# Altium integrated library NSC Amplifier.IntLib: 1615 symbols (part 20 of 44)
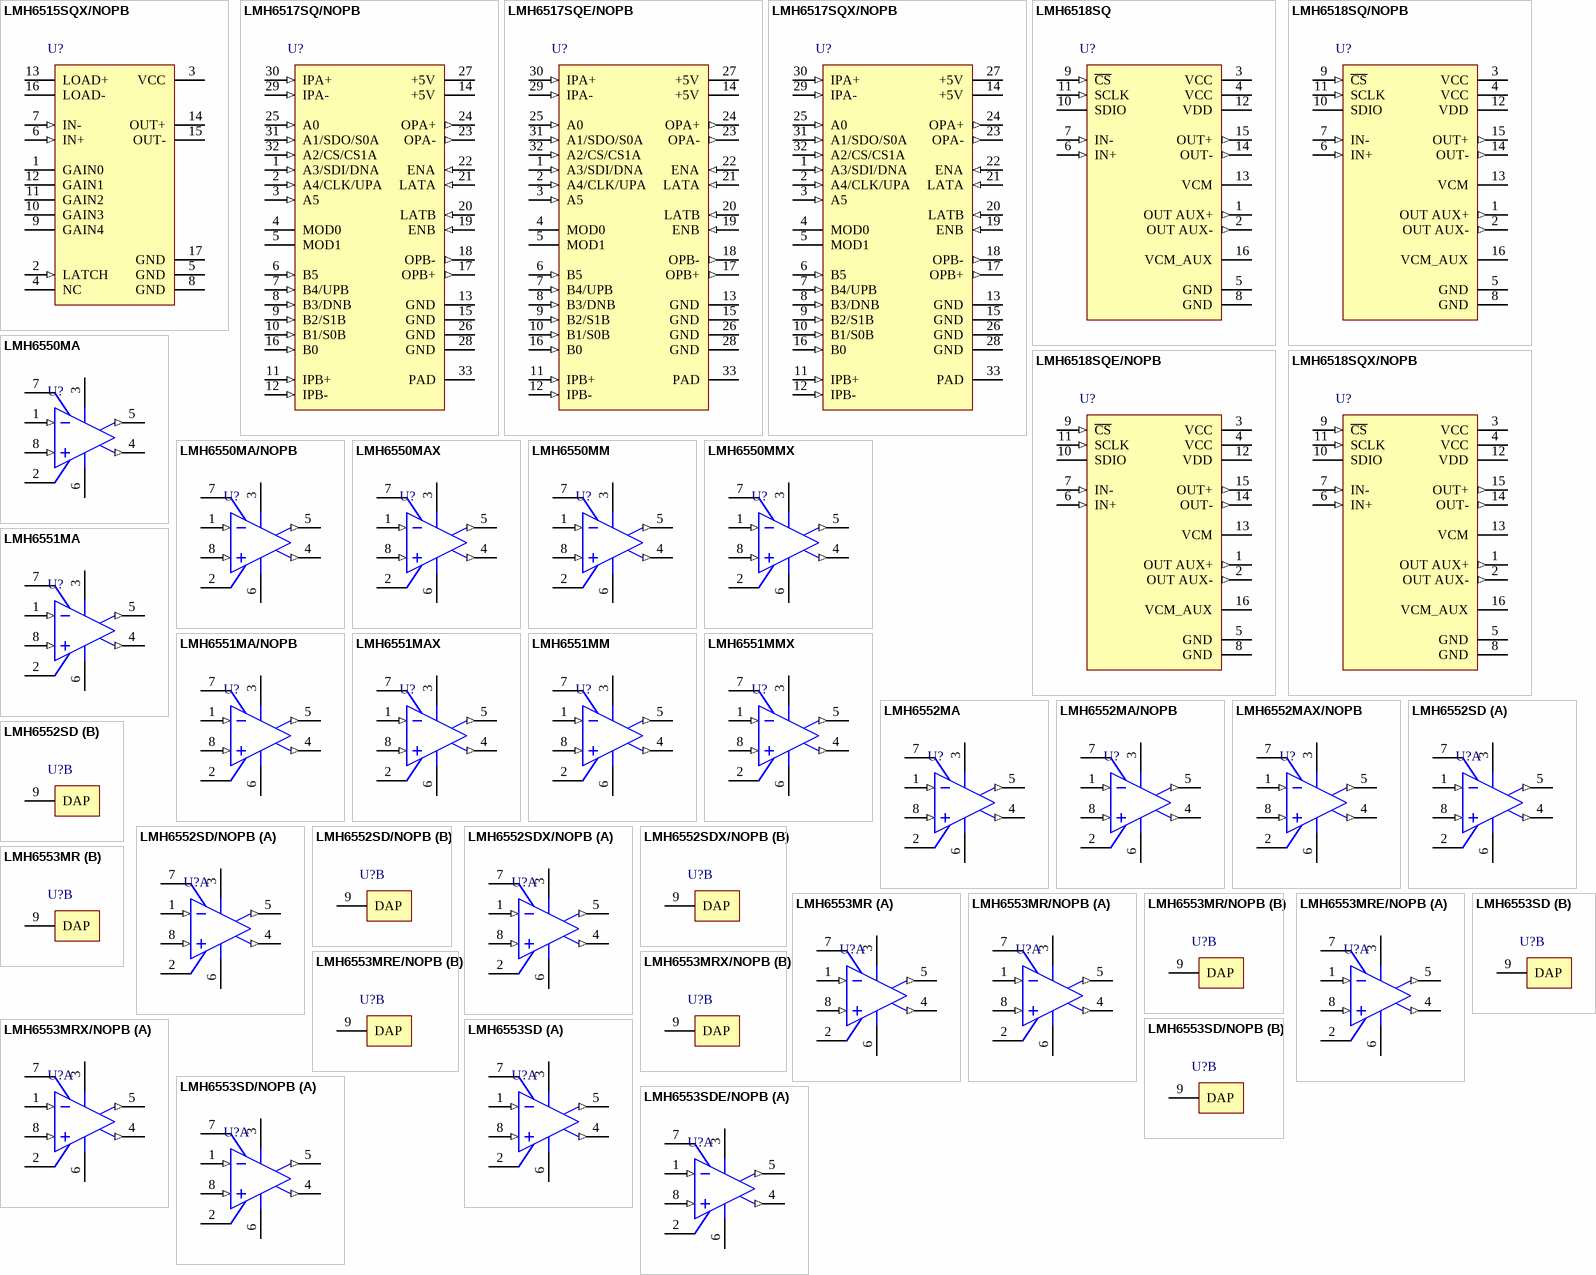
[diagram p101: symbols LMH6515SQX/NOPB to LMH6553SDE/NOPB]

## LMH6517SQX/NOPB
designator U?
Low Power, Low Noise IF and Baseband Dual 16 bit ADC Driver With Digitally Controlled Gain, 32 pin LLP, Pb-Free; PartNumber: LMH6517SQX/NOPB; Manufacturer: National Semiconductor; PackageTopMarking: NS*UZXYTT*L6517SQ; PowerWise: N; CompType: Amplifiers; Published: 1-Mar-2010; DatasheetVersion: Nov-2009; PackageVersion: revB, Oct-2009; PackageReference: SQA32A; Publisher: Altium Limited; PackageDescription: LLP, Quad, 5 x 5 x 0.8mm, 32 Lead, 0.5mm Pitch, No Pullback 3.1 x 3.1 Exposed Pad; Supplier 1: Digi-Key; Supplier Part Number 1: LMH6517SQX-ND; RoHS: Y; PinCount: 32; ComponentLink1Description: LMH6517 Datasheet; ComponentLink1URL: http://www.national.com/ds/LM/LMH6517.pdf; ComponentLink2Description: LMH6517 Web Page; ComponentLink2URL: http://www.national.com/pf/LM/LMH6517.html; ComponentLink3Description: SQA32A Package Page; ComponentLink3URL: http://www.national.com/packaging/folders/sqa32a.html
footprint SQA32A (QFN, 32-Leads, Body 5x5mm, Pitch 0.5mm, NSC Recommended)
pins: 1 A3/SDI/DNA (in), 2 A4/CLK/UPA (in), 3 A5 (in), 4 MOD0, 5 MOD1, 6 B5 (in), 7 B4/UPB (in), 8 B3/DNB (in), 9 B2/S1B (in), 10 B1/S0B (in), 11 IPB+ (in), 12 IPB- (in), 13 GND (power), 14 +5V (power), 15 GND (power), 16 B0 (in), 17 OPB+ (out), 18 OPB- (out), 19 ENB (in), 20 LATB (in), 21 LATA (in), 22 ENA (in), 23 OPA- (out), 24 OPA+ (out), 25 A0 (in), 26 GND (power), 27 +5V (power), 28 GND (power), 29 IPA- (in), 30 IPA+ (in), 31 A1/SDO/S0A (in), 32 A2/CS/CS1A (in), 33 PAD (power)

## LMH6518SQ
designator U?
900 MHz, Digitally Controlled, Variable Gain Amplifier, 16-pin LLP; PartNumber: LMH6518; Manufacturer: National Semiconductor; PackageTopMarking: NS*UZXYTT*L6518SQ; PowerWise: Y; CompType: Amplifiers; Published: 4-Dec-2008; DatasheetVersion: Oct-2008; PackageVersion: revA, Oct-2003; PackageReference: SQA16A; Publisher: Altium Limited; PackageDescription: LLP, Plastic, Quad, 4 x 4 x 0.8mm Body, 16 Lead, 0.5mm Pitch, No Pullback; RoHS: Y; PinCount: 16; ComponentLink1Description: LMH6518 Datasheet; ComponentLink1URL: http://www.national.com/ds/LM/LMH6518.pdf; ComponentLink2Description: LMH6518 Web Page; ComponentLink2URL: http://www.national.com/pf/LM/LMH6518.html; ComponentLink3Description: SQA16A Package Page; ComponentLink3URL: http://www.national.com/packaging/folders/sqa16a.html
footprint SQA16A (QFN, 16-Leads, Body 4x4mm, Pitch 0.5mm, NSC Recommended)
pins: 1 OUT AUX+ (out), 2 OUT AUX- (out), 3 VCC (power), 4 VCC (power), 5 GND (power), 6 IN+ (in), 7 IN- (in), 8 GND (power), 9 ~{CS} (in), 10 SDIO (hiz), 11 SCLK (in), 12 VDD (power), 13 VCM, 14 OUT- (out), 15 OUT+ (out), 16 VCM_AUX

## LMH6518SQ/NOPB
designator U?
900 MHz, Digitally Controlled, Variable Gain Amplifier, 16-pin LLP, Pb-Free; PartNumber: LMH6518SQ/NOPB; Manufacturer: National Semiconductor; PackageTopMarking: NS*UZXYTT*L6518SQ; PowerWise: Y; CompType: Amplifiers; Published: 1-Mar-2010; DatasheetVersion: Oct-2008; PackageVersion: revA, Oct-2003; PackageReference: SQA16A; Publisher: Altium Limited; PackageDescription: LLP, Plastic, Quad, 4 x 4 x 0.8mm Body, 16 Lead, 0.5mm Pitch, No Pullback; Supplier 1: Digi-Key; Supplier Part Number 1: LMH6518SQ-ND; RoHS: Y; PinCount: 16; ComponentLink1Description: LMH6518 Datasheet; ComponentLink1URL: http://www.national.com/ds/LM/LMH6518.pdf; ComponentLink2Description: LMH6518 Web Page; ComponentLink2URL: http://www.national.com/pf/LM/LMH6518.html; ComponentLink3Description: SQA16A Package Page; ComponentLink3URL: http://www.national.com/packaging/folders/sqa16a.html
footprint SQA16A (QFN, 16-Leads, Body 4x4mm, Pitch 0.5mm, NSC Recommended)
pins: 1 OUT AUX+ (out), 2 OUT AUX- (out), 3 VCC (power), 4 VCC (power), 5 GND (power), 6 IN+ (in), 7 IN- (in), 8 GND (power), 9 ~{CS} (in), 10 SDIO (hiz), 11 SCLK (in), 12 VDD (power), 13 VCM, 14 OUT- (out), 15 OUT+ (out), 16 VCM_AUX

## LMH6518SQE/NOPB
designator U?
900 MHz, Digitally Controlled, Variable Gain Amplifier, 16-pin LLP, Pb-Free; PartNumber: LMH6518SQE/NOPB; Manufacturer: National Semiconductor; PackageTopMarking: NS*UZXYTT*L6518SQ; PowerWise: Y; CompType: Amplifiers; Published: 1-Mar-2010; DatasheetVersion: Oct-2008; PackageVersion: revA, Oct-2003; PackageReference: SQA16A; Publisher: Altium Limited; PackageDescription: LLP, Plastic, Quad, 4 x 4 x 0.8mm Body, 16 Lead, 0.5mm Pitch, No Pullback; Supplier 1: Digi-Key; Supplier Part Number 1: LMH6518SQETR-ND; Supplier 2: Digi-Key; Supplier Part Number 2: LMH6518SQECT-ND; Supplier 3: Digi-Key; Supplier Part Number 3: LMH6518SQEDKR-ND; Supplier 4: Farnell; Supplier Part Number 4: 1684974; RoHS: Y; PinCount: 16; ComponentLink1Description: LMH6518 Datasheet; ComponentLink1URL: http://www.national.com/ds/LM/LMH6518.pdf; ComponentLink2Description: LMH6518 Web Page; ComponentLink2URL: http://www.national.com/pf/LM/LMH6518.html; ComponentLink3Description: SQA16A Package Page; ComponentLink3URL: http://www.national.com/packaging/folders/sqa16a.html
footprint SQA16A (QFN, 16-Leads, Body 4x4mm, Pitch 0.5mm, NSC Recommended)
pins: 1 OUT AUX+ (out), 2 OUT AUX- (out), 3 VCC (power), 4 VCC (power), 5 GND (power), 6 IN+ (in), 7 IN- (in), 8 GND (power), 9 ~{CS} (in), 10 SDIO (hiz), 11 SCLK (in), 12 VDD (power), 13 VCM, 14 OUT- (out), 15 OUT+ (out), 16 VCM_AUX

## LMH6518SQX/NOPB
designator U?
900 MHz, Digitally Controlled, Variable Gain Amplifier, 16-pin LLP, Pb-Free; PartNumber: LMH6518SQX/NOPB; Manufacturer: National Semiconductor; PackageTopMarking: NS*UZXYTT*L6518SQ; PowerWise: Y; CompType: Amplifiers; Published: 1-Mar-2010; DatasheetVersion: Oct-2008; PackageVersion: revA, Oct-2003; PackageReference: SQA16A; Publisher: Altium Limited; PackageDescription: LLP, Plastic, Quad, 4 x 4 x 0.8mm Body, 16 Lead, 0.5mm Pitch, No Pullback; Supplier 1: Digi-Key; Supplier Part Number 1: LMH6518SQX-ND; RoHS: Y; PinCount: 16; ComponentLink1Description: LMH6518 Datasheet; ComponentLink1URL: http://www.national.com/ds/LM/LMH6518.pdf; ComponentLink2Description: LMH6518 Web Page; ComponentLink2URL: http://www.national.com/pf/LM/LMH6518.html; ComponentLink3Description: SQA16A Package Page; ComponentLink3URL: http://www.national.com/packaging/folders/sqa16a.html
footprint SQA16A (QFN, 16-Leads, Body 4x4mm, Pitch 0.5mm, NSC Recommended)
pins: 1 OUT AUX+ (out), 2 OUT AUX- (out), 3 VCC (power), 4 VCC (power), 5 GND (power), 6 IN+ (in), 7 IN- (in), 8 GND (power), 9 ~{CS} (in), 10 SDIO (hiz), 11 SCLK (in), 12 VDD (power), 13 VCM, 14 OUT- (out), 15 OUT+ (out), 16 VCM_AUX

## LMH6550MA
designator U?
Differential, High Speed Op Amp, 8-pin Narrow SOIC; PartNumber: LMH6550MA; Manufacturer: National Semiconductor; PackageTopMarking: NSZXTT*LMH65*50MA; PowerWise: Y; CompType: Amplifiers; Published: 4-Dec-2008; LatestRevisionDate: 13-Jan-2009; LatestRevisionNote: Sim Model Added.; DatasheetVersion: May-2006; PackageVersion: revM, May-2009; PackageReference: M08A; Publisher: Altium Limited; PackageDescription: SOIC Narrow, 4.9 x 3.9 x 1.45mm, 8 Lead, 1.27mm Pitch; Supplier 1: Farnell; Supplier Part Number 1: 1008272; RoHS: N; PinCount: 8; Code_JEDEC: MS-012-AA; Code_IPC: SOIC127P600-8; ComponentLink1Description: LMH6550 Datasheet; ComponentLink1URL: http://www.national.com/ds/LM/LMH6550.pdf; ComponentLink2Description: LMH6550 Web Page; ComponentLink2URL: http://www.national.com/pf/LM/LMH6550.html; ComponentLink3Description: M08A Package Page; ComponentLink3URL: http://www.national.com/packaging/folders/m08a.html
footprint M08A_N (SOIC, 8-Leads, Body 4.9x3.9mm, Pitch 1.27mm, IPC Medium Density)
footprint M08A_L (SOIC, 8-Leads, Body 4.9x3.9mm, Pitch 1.27mm, IPC High Density)
footprint M08A_M (SOIC, 8-Leads, Body 4.9x3.9mm, Pitch 1.27mm, IPC Low Density)
simulation model LMH6550 (SUBCKT)
pins: 1 IN- (in), 2 VCM, 3 V+ (power), 4 OUT+ (out), 5 OUT- (out), 6 V- (power), 7 EN, 8 IN+ (in)

## LMH6550MA/NOPB
designator U?
Differential, High Speed Op Amp, 8-pin Narrow SOIC, Pb-Free; PartNumber: LMH6550MA/NOPB; Manufacturer: National Semiconductor; PackageTopMarking: NSZXTT*LMH65*50MA; PowerWise: Y; CompType: Amplifiers; Published: 1-Mar-2010; DatasheetVersion: May-2006; PackageVersion: revM, May-2009; PackageReference: M08A; Publisher: Altium Limited; PackageDescription: SOIC Narrow, 4.9 x 3.9 x 1.45mm, 8 Lead, 1.27mm Pitch; Supplier 1: Digi-Key; Supplier Part Number 1: LMH6550MA-ND; Supplier 2: Farnell; Supplier Part Number 2: 1510999; RoHS: Y; PinCount: 8; Code_JEDEC: MS-012-AA; Code_IPC: SOIC127P600-8; ComponentLink1Description: LMH6550 Datasheet; ComponentLink1URL: http://www.national.com/ds/LM/LMH6550.pdf; ComponentLink2Description: LMH6550 Web Page; ComponentLink2URL: http://www.national.com/pf/LM/LMH6550.html; ComponentLink3Description: M08A Package Page; ComponentLink3URL: http://www.national.com/packaging/folders/m08a.html
footprint M08A_N (SOIC, 8-Leads, Body 4.9x3.9mm, Pitch 1.27mm, IPC Medium Density)
footprint M08A_L (SOIC, 8-Leads, Body 4.9x3.9mm, Pitch 1.27mm, IPC High Density)
footprint M08A_M (SOIC, 8-Leads, Body 4.9x3.9mm, Pitch 1.27mm, IPC Low Density)
simulation model LMH6550 (SUBCKT)
pins: 1 IN- (in), 2 VCM, 3 V+ (power), 4 OUT+ (out), 5 OUT- (out), 6 V- (power), 7 EN, 8 IN+ (in)

## LMH6550MAX
designator U?
Differential, High Speed Op Amp, 8-pin Narrow SOIC; PartNumber: LMH6550MAX; Manufacturer: National Semiconductor; PackageTopMarking: NSZXTT*LMH65*50MA; PowerWise: Y; CompType: Amplifiers; Published: 1-Mar-2010; DatasheetVersion: May-2006; PackageVersion: revM, May-2009; PackageReference: M08A; Publisher: Altium Limited; PackageDescription: SOIC Narrow, 4.9 x 3.9 x 1.45mm, 8 Lead, 1.27mm Pitch; RoHS: N; PinCount: 8; Code_JEDEC: MS-012-AA; Code_IPC: SOIC127P600-8; ComponentLink1Description: LMH6550 Datasheet; ComponentLink1URL: http://www.national.com/ds/LM/LMH6550.pdf; ComponentLink2Description: LMH6550 Web Page; ComponentLink2URL: http://www.national.com/pf/LM/LMH6550.html; ComponentLink3Description: M08A Package Page; ComponentLink3URL: http://www.national.com/packaging/folders/m08a.html
footprint M08A_N (SOIC, 8-Leads, Body 4.9x3.9mm, Pitch 1.27mm, IPC Medium Density)
footprint M08A_L (SOIC, 8-Leads, Body 4.9x3.9mm, Pitch 1.27mm, IPC High Density)
footprint M08A_M (SOIC, 8-Leads, Body 4.9x3.9mm, Pitch 1.27mm, IPC Low Density)
simulation model LMH6550 (SUBCKT)
pins: 1 IN- (in), 2 VCM, 3 V+ (power), 4 OUT+ (out), 5 OUT- (out), 6 V- (power), 7 EN, 8 IN+ (in)

## LMH6550MM
designator U?
Differential, High Speed Op Amp, 8-pin Mini SOIC; PartNumber: LMH6550MM; Manufacturer: National Semiconductor; PackageTopMarking: ZXTT*AL1A; PowerWise: Y; CompType: Amplifiers; Published: 4-Dec-2008; LatestRevisionDate: 13-Jan-2009; LatestRevisionNote: Sim Model Added.; DatasheetVersion: May-2006; PackageVersion: revF, Apr-2008; PackageReference: MUA08A; Publisher: Altium Limited; PackageDescription: MINI SOIC, .118 x .118 x .034in, 8 Lead, .0256in Pitch; Supplier 1: Farnell; Supplier Part Number 1: 1008036; RoHS: Y; PinCount: 8; Code_JEDEC: MO-187-AA; ComponentLink1Description: LMH6550 Datasheet; ComponentLink1URL: http://www.national.com/ds/LM/LMH6550.pdf; ComponentLink2Description: LMH6550 Web Page; ComponentLink2URL: http://www.national.com/pf/LM/LMH6550.html; ComponentLink3Description: MUA08A Package Page; ComponentLink3URL: http://www.national.com/packaging/folders/mua08a.html
footprint MUA08A_N (TSOP, 8-Leads, Body 3x3mm, Pitch 0.65mm, IPC Medium Density)
footprint MUA08A_L (TSOP, 8-Leads, Body 3x3mm, Pitch 0.65mm, IPC High Density)
footprint MUA08A_M (TSOP, 8-Leads, Body 3x3mm, Pitch 0.65mm, IPC Low Density)
simulation model LMH6550 (SUBCKT)
pins: 1 IN- (in), 2 VCM, 3 V+ (power), 4 OUT+ (out), 5 OUT- (out), 6 V- (power), 7 EN, 8 IN+ (in)

## LMH6550MMX
designator U?
Differential, High Speed Op Amp, 8-pin Mini SOIC; PartNumber: LMH6550MMX; Manufacturer: National Semiconductor; PackageTopMarking: ZXTT*AL1A; PowerWise: Y; CompType: Amplifiers; Published: 1-Mar-2010; DatasheetVersion: May-2006; PackageVersion: revF, Apr-2008; PackageReference: MUA08A; Publisher: Altium Limited; PackageDescription: MINI SOIC, .118 x .118 x .034in, 8 Lead, .0256in Pitch; RoHS: N; PinCount: 8; Code_JEDEC: MO-187-AA; ComponentLink1Description: LMH6550 Datasheet; ComponentLink1URL: http://www.national.com/ds/LM/LMH6550.pdf; ComponentLink2Description: LMH6550 Web Page; ComponentLink2URL: http://www.national.com/pf/LM/LMH6550.html; ComponentLink3Description: MUA08A Package Page; ComponentLink3URL: http://www.national.com/packaging/folders/mua08a.html
footprint MUA08A_N (TSOP, 8-Leads, Body 3x3mm, Pitch 0.65mm, IPC Medium Density)
footprint MUA08A_L (TSOP, 8-Leads, Body 3x3mm, Pitch 0.65mm, IPC High Density)
footprint MUA08A_M (TSOP, 8-Leads, Body 3x3mm, Pitch 0.65mm, IPC Low Density)
simulation model LMH6550 (SUBCKT)
pins: 1 IN- (in), 2 VCM, 3 V+ (power), 4 OUT+ (out), 5 OUT- (out), 6 V- (power), 7 EN, 8 IN+ (in)

## LMH6551MA
designator U?
Differential, High Speed Op Amp, 8-pin Narrow SOIC; PartNumber: LMH6551MA; Manufacturer: National Semiconductor; PackageTopMarking: NSZXTT*LMH65*51MA; PowerWise: Y; CompType: Amplifiers; Published: 4-Dec-2008; LatestRevisionDate: 13-Jan-2009; LatestRevisionNote: Sim Model Added.; DatasheetVersion: Feb-2005; PackageVersion: revM, May-2009; PackageReference: M08A; Publisher: Altium Limited; PackageDescription: SOIC Narrow, 4.9 x 3.9 x 1.45mm, 8 Lead, 1.27mm Pitch; Supplier 1: Farnell; Supplier Part Number 1: 1008273; RoHS: N; PinCount: 8; Code_JEDEC: MS-012-AA; Code_IPC: SOIC127P600-8; ComponentLink1Description: LMH6551 Datasheet; ComponentLink1URL: http://www.national.com/ds/LM/LMH6551.pdf; ComponentLink2Description: LMH6551 Web Page; ComponentLink2URL: http://www.national.com/pf/LM/LMH6551.html; ComponentLink3Description: M08A Package Page; ComponentLink3URL: http://www.national.com/packaging/folders/m08a.html
footprint M08A_N (SOIC, 8-Leads, Body 4.9x3.9mm, Pitch 1.27mm, IPC Medium Density)
footprint M08A_L (SOIC, 8-Leads, Body 4.9x3.9mm, Pitch 1.27mm, IPC High Density)
footprint M08A_M (SOIC, 8-Leads, Body 4.9x3.9mm, Pitch 1.27mm, IPC Low Density)
simulation model LMH6551 (SUBCKT)
pins: 1 IN- (in), 2 VCM, 3 V+ (power), 4 OUT+ (out), 5 OUT- (out), 6 V- (power), 7 NC, 8 IN+ (in)

## LMH6551MA/NOPB
designator U?
Differential, High Speed Op Amp, 8-pin Narrow SOIC, Pb-Free; PartNumber: LMH6551MA/NOPB; Manufacturer: National Semiconductor; PackageTopMarking: NSZXTT*LMH65*51MA; PowerWise: Y; CompType: Amplifiers; Published: 1-Mar-2010; DatasheetVersion: Feb-2005; PackageVersion: revM, May-2009; PackageReference: M08A; Publisher: Altium Limited; PackageDescription: SOIC Narrow, 4.9 x 3.9 x 1.45mm, 8 Lead, 1.27mm Pitch; Supplier 1: Digi-Key; Supplier Part Number 1: LMH6551MA-ND; Supplier 2: Farnell; Supplier Part Number 2: 1559319; RoHS: Y; PinCount: 8; Code_JEDEC: MS-012-AA; Code_IPC: SOIC127P600-8; ComponentLink1Description: LMH6551 Datasheet; ComponentLink1URL: http://www.national.com/ds/LM/LMH6551.pdf; ComponentLink2Description: LMH6551 Web Page; ComponentLink2URL: http://www.national.com/pf/LM/LMH6551.html; ComponentLink3Description: M08A Package Page; ComponentLink3URL: http://www.national.com/packaging/folders/m08a.html
footprint M08A_N (SOIC, 8-Leads, Body 4.9x3.9mm, Pitch 1.27mm, IPC Medium Density)
footprint M08A_L (SOIC, 8-Leads, Body 4.9x3.9mm, Pitch 1.27mm, IPC High Density)
footprint M08A_M (SOIC, 8-Leads, Body 4.9x3.9mm, Pitch 1.27mm, IPC Low Density)
simulation model LMH6551 (SUBCKT)
pins: 1 IN- (in), 2 VCM, 3 V+ (power), 4 OUT+ (out), 5 OUT- (out), 6 V- (power), 7 NC, 8 IN+ (in)

## LMH6551MAX
designator U?
Differential, High Speed Op Amp, 8-pin Narrow SOIC; PartNumber: LMH6551MAX; Manufacturer: National Semiconductor; PackageTopMarking: NSZXTT*LMH65*51MA; PowerWise: Y; CompType: Amplifiers; Published: 1-Mar-2010; DatasheetVersion: Feb-2005; PackageVersion: revM, May-2009; PackageReference: M08A; Publisher: Altium Limited; PackageDescription: SOIC Narrow, 4.9 x 3.9 x 1.45mm, 8 Lead, 1.27mm Pitch; RoHS: N; PinCount: 8; Code_JEDEC: MS-012-AA; Code_IPC: SOIC127P600-8; ComponentLink1Description: LMH6551 Datasheet; ComponentLink1URL: http://www.national.com/ds/LM/LMH6551.pdf; ComponentLink2Description: LMH6551 Web Page; ComponentLink2URL: http://www.national.com/pf/LM/LMH6551.html; ComponentLink3Description: M08A Package Page; ComponentLink3URL: http://www.national.com/packaging/folders/m08a.html
footprint M08A_N (SOIC, 8-Leads, Body 4.9x3.9mm, Pitch 1.27mm, IPC Medium Density)
footprint M08A_L (SOIC, 8-Leads, Body 4.9x3.9mm, Pitch 1.27mm, IPC High Density)
footprint M08A_M (SOIC, 8-Leads, Body 4.9x3.9mm, Pitch 1.27mm, IPC Low Density)
simulation model LMH6551 (SUBCKT)
pins: 1 IN- (in), 2 VCM, 3 V+ (power), 4 OUT+ (out), 5 OUT- (out), 6 V- (power), 7 NC, 8 IN+ (in)

## LMH6551MM
designator U?
Differential, High Speed Op Amp, 8-pin Mini SOIC; PartNumber: LMH6551MM; Manufacturer: National Semiconductor; PackageTopMarking: ZXTT*AU1A; PowerWise: Y; CompType: Amplifiers; Published: 4-Dec-2008; LatestRevisionDate: 13-Jan-2009; LatestRevisionNote: Sim Model Added.; DatasheetVersion: Feb-2005; PackageVersion: revF, Apr-2008; PackageReference: MUA08A; Publisher: Altium Limited; PackageDescription: MINI SOIC, .118 x .118 x .034in, 8 Lead, .0256in Pitch; Supplier 1: Farnell; Supplier Part Number 1: 1008037; RoHS: N; PinCount: 8; Code_JEDEC: MO-187-AA; ComponentLink1Description: LMH6551 Datasheet; ComponentLink1URL: http://www.national.com/ds/LM/LMH6551.pdf; ComponentLink2Description: LMH6551 Web Page; ComponentLink2URL: http://www.national.com/pf/LM/LMH6551.html; ComponentLink3Description: MUA08A Package Page; ComponentLink3URL: http://www.national.com/packaging/folders/mua08a.html
footprint MUA08A_N (TSOP, 8-Leads, Body 3x3mm, Pitch 0.65mm, IPC Medium Density)
footprint MUA08A_L (TSOP, 8-Leads, Body 3x3mm, Pitch 0.65mm, IPC High Density)
footprint MUA08A_M (TSOP, 8-Leads, Body 3x3mm, Pitch 0.65mm, IPC Low Density)
simulation model LMH6551 (SUBCKT)
pins: 1 IN- (in), 2 VCM, 3 V+ (power), 4 OUT+ (out), 5 OUT- (out), 6 V- (power), 7 NC, 8 IN+ (in)

## LMH6551MMX
designator U?
Differential, High Speed Op Amp, 8-pin Mini SOIC; PartNumber: LMH6551MMX; Manufacturer: National Semiconductor; PackageTopMarking: ZXTT*AU1A; PowerWise: Y; CompType: Amplifiers; Published: 1-Mar-2010; DatasheetVersion: Feb-2005; PackageVersion: revF, Apr-2008; PackageReference: MUA08A; Publisher: Altium Limited; PackageDescription: MINI SOIC, .118 x .118 x .034in, 8 Lead, .0256in Pitch; RoHS: N; PinCount: 8; Code_JEDEC: MO-187-AA; ComponentLink1Description: LMH6551 Datasheet; ComponentLink1URL: http://www.national.com/ds/LM/LMH6551.pdf; ComponentLink2Description: LMH6551 Web Page; ComponentLink2URL: http://www.national.com/pf/LM/LMH6551.html; ComponentLink3Description: MUA08A Package Page; ComponentLink3URL: http://www.national.com/packaging/folders/mua08a.html
footprint MUA08A_N (TSOP, 8-Leads, Body 3x3mm, Pitch 0.65mm, IPC Medium Density)
footprint MUA08A_L (TSOP, 8-Leads, Body 3x3mm, Pitch 0.65mm, IPC High Density)
footprint MUA08A_M (TSOP, 8-Leads, Body 3x3mm, Pitch 0.65mm, IPC Low Density)
simulation model LMH6551 (SUBCKT)
pins: 1 IN- (in), 2 VCM, 3 V+ (power), 4 OUT+ (out), 5 OUT- (out), 6 V- (power), 7 NC, 8 IN+ (in)

## LMH6552MA
designator U?
1.5 GHz Fully Differential Amplifier, 8-pin Narrow SOIC; PartNumber: LMH6552MA; Manufacturer: National Semiconductor; PackageTopMarking: NSZXTT*LMH65*52MA; PowerWise: Y; CompType: Amplifiers; Published: 4-Dec-2008; LatestRevisionDate: 13-Jan-2009; LatestRevisionNote: Sim Model Added.; DatasheetVersion: Sep-2007; PackageVersion: revM, May-2009; PackageReference: M08A; Publisher: Altium Limited; PackageDescription: SOIC Narrow, 4.9 x 3.9 x 1.45mm, 8 Lead, 1.27mm Pitch; Supplier 1: Farnell; Supplier Part Number 1: 1359427; RoHS: Y; PinCount: 8; Code_JEDEC: MS-012-AA; Code_IPC: SOIC127P600-8; ComponentLink1Description: LMH6552 Datasheet; ComponentLink1URL: http://www.national.com/ds/LM/LMH6552.pdf; ComponentLink2Description: LMH6552 Web Page; ComponentLink2URL: http://www.national.com/pf/LM/LMH6552.html; ComponentLink3Description: M08A Package Page; ComponentLink3URL: http://www.national.com/packaging/folders/m08a.html
footprint M08A_N (SOIC, 8-Leads, Body 4.9x3.9mm, Pitch 1.27mm, IPC Medium Density)
footprint M08A_L (SOIC, 8-Leads, Body 4.9x3.9mm, Pitch 1.27mm, IPC High Density)
footprint M08A_M (SOIC, 8-Leads, Body 4.9x3.9mm, Pitch 1.27mm, IPC Low Density)
simulation model LMH6552 (SUBCKT)
pins: 1 IN- (in), 2 VCM, 3 V+ (power), 4 OUT+ (out), 5 OUT- (out), 6 V- (power), 7 EN, 8 IN+ (in)

## LMH6552MA/NOPB
designator U?
1.5 GHz Fully Differential Amplifier, 8-pin Narrow SOIC, Pb-Free; PartNumber: LMH6552MA/NOPB; Manufacturer: National Semiconductor; PackageTopMarking: NSZXTT*LMH65*52MA; PowerWise: Y; CompType: Amplifiers; Published: 1-Mar-2010; DatasheetVersion: Sep-2007; PackageVersion: revM, May-2009; PackageReference: M08A; Publisher: Altium Limited; PackageDescription: SOIC Narrow, 4.9 x 3.9 x 1.45mm, 8 Lead, 1.27mm Pitch; Supplier 1: Digi-Key; Supplier Part Number 1: LMH6552MA-ND; Supplier 2: Farnell; Supplier Part Number 2: 1364439; RoHS: Y; PinCount: 8; Code_JEDEC: MS-012-AA; Code_IPC: SOIC127P600-8; ComponentLink1Description: LMH6552 Datasheet; ComponentLink1URL: http://www.national.com/ds/LM/LMH6552.pdf; ComponentLink2Description: LMH6552 Web Page; ComponentLink2URL: http://www.national.com/pf/LM/LMH6552.html; ComponentLink3Description: M08A Package Page; ComponentLink3URL: http://www.national.com/packaging/folders/m08a.html
footprint M08A_N (SOIC, 8-Leads, Body 4.9x3.9mm, Pitch 1.27mm, IPC Medium Density)
footprint M08A_L (SOIC, 8-Leads, Body 4.9x3.9mm, Pitch 1.27mm, IPC High Density)
footprint M08A_M (SOIC, 8-Leads, Body 4.9x3.9mm, Pitch 1.27mm, IPC Low Density)
simulation model LMH6552 (SUBCKT)
pins: 1 IN- (in), 2 VCM, 3 V+ (power), 4 OUT+ (out), 5 OUT- (out), 6 V- (power), 7 EN, 8 IN+ (in)

## LMH6552MAX/NOPB
designator U?
1.5 GHz Fully Differential Amplifier, 8-pin Narrow SOIC, Pb-Free; PartNumber: LMH6552MAX/NOPB; Manufacturer: National Semiconductor; PackageTopMarking: NSZXTT*LMH65*52MA; PowerWise: Y; CompType: Amplifiers; Published: 1-Mar-2010; DatasheetVersion: Sep-2007; PackageVersion: revM, May-2009; PackageReference: M08A; Publisher: Altium Limited; PackageDescription: SOIC Narrow, 4.9 x 3.9 x 1.45mm, 8 Lead, 1.27mm Pitch; Supplier 1: Digi-Key; Supplier Part Number 1: LMH6552MAX-ND; RoHS: Y; PinCount: 8; Code_JEDEC: MS-012-AA; Code_IPC: SOIC127P600-8; ComponentLink1Description: LMH6552 Datasheet; ComponentLink1URL: http://www.national.com/ds/LM/LMH6552.pdf; ComponentLink2Description: LMH6552 Web Page; ComponentLink2URL: http://www.national.com/pf/LM/LMH6552.html; ComponentLink3Description: M08A Package Page; ComponentLink3URL: http://www.national.com/packaging/folders/m08a.html
footprint M08A_N (SOIC, 8-Leads, Body 4.9x3.9mm, Pitch 1.27mm, IPC Medium Density)
footprint M08A_L (SOIC, 8-Leads, Body 4.9x3.9mm, Pitch 1.27mm, IPC High Density)
footprint M08A_M (SOIC, 8-Leads, Body 4.9x3.9mm, Pitch 1.27mm, IPC Low Density)
simulation model LMH6552 (SUBCKT)
pins: 1 IN- (in), 2 VCM, 3 V+ (power), 4 OUT+ (out), 5 OUT- (out), 6 V- (power), 7 EN, 8 IN+ (in)

## LMH6552SD
designator U?
1.5 GHz Fully Differential Amplifier, 8-pin LLP; PartNumber: LMH6552SD; Manufacturer: National Semiconductor; PackageTopMarking: XYTT*6552; PowerWise: Y; CompType: Amplifiers; Published: 4-Dec-2008; LatestRevisionDate: 13-Jan-2009; LatestRevisionNote: Sim Model Added.; DatasheetVersion: Sep-2007; PackageVersion: revA, Jan-2004; PackageReference: SDA08C; Publisher: Altium Limited; PackageDescription: LLP, Plastic, Dual, 2.5 x 3.0 x 0.8mm Body, 8 Lead, 0.5mm Pitch, No Pullback; Supplier 1: Farnell; Supplier Part Number 1: 1471249; RoHS: Y; PinCount: 8; ComponentLink1Description: LMH6552 Datasheet; ComponentLink1URL: http://www.national.com/ds/LM/LMH6552.pdf; ComponentLink2Description: LMH6552 Web Page; ComponentLink2URL: http://www.national.com/pf/LM/LMH6552.html; ComponentLink3Description: SDA08C Package Page; ComponentLink3URL: http://www.national.com/packaging/folders/sda08c.html
footprint SDA08C (SON, 8-Leads, Body 2.5x3mm, Pitch 0.5mm, NSC Recommended)
simulation model LMH6552 (SUBCKT)
part A pins: 1 IN- (in), 2 VCM, 3 V+ (power), 4 OUT+ (out), 5 OUT- (out), 6 V- (power), 7 EN, 8 IN+ (in)
part B pins: 9 DAP

## LMH6552SD/NOPB
designator U?
1.5 GHz Fully Differential Amplifier, 8-pin LLP, Pb-Free; PartNumber: LMH6552SD/NOPB; Manufacturer: National Semiconductor; PackageTopMarking: XYTT*6552; PowerWise: Y; CompType: Amplifiers; Published: 1-Mar-2010; DatasheetVersion: Sep-2007; PackageVersion: revA, Jan-2004; PackageReference: SDA08C; Publisher: Altium Limited; PackageDescription: LLP, Plastic, Dual, 2.5 x 3.0 x 0.8mm Body, 8 Lead, 0.5mm Pitch, No Pullback; Supplier 1: Digi-Key; Supplier Part Number 1: LMH6552SDTR-ND; Supplier 2: Digi-Key; Supplier Part Number 2: LMH6552SDCT-ND; Supplier 3: Digi-Key; Supplier Part Number 3: LMH6552SDDKR-ND; RoHS: Y; PinCount: 8; ComponentLink1Description: LMH6552 Datasheet; ComponentLink1URL: http://www.national.com/ds/LM/LMH6552.pdf; ComponentLink2Description: LMH6552 Web Page; ComponentLink2URL: http://www.national.com/pf/LM/LMH6552.html; ComponentLink3Description: SDA08C Package Page; ComponentLink3URL: http://www.national.com/packaging/folders/sda08c.html
footprint SDA08C (SON, 8-Leads, Body 2.5x3mm, Pitch 0.5mm, NSC Recommended)
simulation model LMH6552 (SUBCKT)
part A pins: 1 IN- (in), 2 VCM, 3 V+ (power), 4 OUT+ (out), 5 OUT- (out), 6 V- (power), 7 EN, 8 IN+ (in)
part B pins: 9 DAP

## LMH6552SDX/NOPB
designator U?
1.5 GHz Fully Differential Amplifier, 8-pin LLP, Pb-Free; PartNumber: LMH6552SDX/NOPB; Manufacturer: National Semiconductor; PackageTopMarking: XYTT*6552; PowerWise: Y; CompType: Amplifiers; Published: 1-Mar-2010; DatasheetVersion: Sep-2007; PackageVersion: revA, Jan-2004; PackageReference: SDA08C; Publisher: Altium Limited; PackageDescription: LLP, Plastic, Dual, 2.5 x 3.0 x 0.8mm Body, 8 Lead, 0.5mm Pitch, No Pullback; Supplier 1: Digi-Key; Supplier Part Number 1: LMH6552SDX-ND; RoHS: Y; PinCount: 8; ComponentLink1Description: LMH6552 Datasheet; ComponentLink1URL: http://www.national.com/ds/LM/LMH6552.pdf; ComponentLink2Description: LMH6552 Web Page; ComponentLink2URL: http://www.national.com/pf/LM/LMH6552.html; ComponentLink3Description: SDA08C Package Page; ComponentLink3URL: http://www.national.com/packaging/folders/sda08c.html
footprint SDA08C (SON, 8-Leads, Body 2.5x3mm, Pitch 0.5mm, NSC Recommended)
simulation model LMH6552 (SUBCKT)
part A pins: 1 IN- (in), 2 VCM, 3 V+ (power), 4 OUT+ (out), 5 OUT- (out), 6 V- (power), 7 EN, 8 IN+ (in)
part B pins: 9 DAP

## LMH6553MR
designator U?
900 MHz Fully Differential Amplifier with Output Limiting Clamp, 9-pin PSOP; PartNumber: LMH6553; Manufacturer: National Semiconductor; PackageTopMarking: NSXYTT*LMH65*53MR; PowerWise: Y; CompType: Amplifiers; Published: 4-Dec-2008; LatestRevisionDate: 13-Jan-2009; LatestRevisionNote: Sim Model Added.; DatasheetVersion: Nov-2008; PackageVersion: revB, Dec-2007; PackageReference: MRA08B; Publisher: Altium Limited; PackageDescription: Molded, PSOP .193 x .154 x .058in, 8 Lead, .050in Pitch, Large DAP; Supplier 1: Farnell; Supplier Part Number 1: 1667414; RoHS: Y; PinCount: 8; Code_JEDEC: MS-012-AA; ComponentLink1Description: LMH6553 Datasheet; ComponentLink1URL: http://www.national.com/ds/LM/LMH6553.pdf; ComponentLink2Description: LMH6553 Web Page; ComponentLink2URL: http://www.national.com/pf/LM/LMH6553.html; ComponentLink3Description: MRA08B Package Page; ComponentLink3URL: http://www.national.com/packaging/folders/mra08b.html
footprint MRA08B_N (SOIC, 8-Leads, Body 4.9x3.9mm, Pitch 1.27mm, Exposed Pad, IPC Medium Density)
footprint MRA08B_L (SOIC, 8-Leads, Body 4.9x3.9mm, Pitch 1.27mm, Exposed Pad, IPC High Density)
footprint MRA08B_M (SOIC, 8-Leads, Body 4.9x3.9mm, Pitch 1.27mm, Exposed Pad, IPC Low Density)
simulation model LMH6553 (SUBCKT)
part A pins: 1 IN- (in), 2 VCM, 3 V+ (power), 4 OUT+ (out), 5 OUT- (out), 6 V- (power), 7 VCLAMP, 8 IN+ (in)
part B pins: 9 DAP

## LMH6553MR/NOPB
designator U?
900 MHz Fully Differential Amplifier with Output Limiting Clamp, 8-pin PSOP, Pb-Free; PartNumber: LMH6553MR/NOPB; Manufacturer: National Semiconductor; PackageTopMarking: NSXYTT*LMH65*53MR; PowerWise: Y; CompType: Amplifiers; Published: 1-Mar-2010; DatasheetVersion: Nov-2008; PackageVersion: revB, Dec-2007; PackageReference: MRA08B; Publisher: Altium Limited; PackageDescription: Molded, PSOP .193 x .154 x .058in, 8 Lead, .050in Pitch, Large DAP; Supplier 1: Digi-Key; Supplier Part Number 1: LMH6553MR-ND; RoHS: Y; PinCount: 8; Code_JEDEC: MS-012-AA; ComponentLink1Description: LMH6553 Datasheet; ComponentLink1URL: http://www.national.com/ds/LM/LMH6553.pdf; ComponentLink2Description: LMH6553 Web Page; ComponentLink2URL: http://www.national.com/pf/LM/LMH6553.html; ComponentLink3Description: MRA08B Package Page; ComponentLink3URL: http://www.national.com/packaging/folders/mra08b.html
footprint MRA08B_N (SOIC, 8-Leads, Body 4.9x3.9mm, Pitch 1.27mm, Exposed Pad, IPC Medium Density)
footprint MRA08B_L (SOIC, 8-Leads, Body 4.9x3.9mm, Pitch 1.27mm, Exposed Pad, IPC High Density)
footprint MRA08B_M (SOIC, 8-Leads, Body 4.9x3.9mm, Pitch 1.27mm, Exposed Pad, IPC Low Density)
simulation model LMH6553 (SUBCKT)
part A pins: 1 IN- (in), 2 VCM, 3 V+ (power), 4 OUT+ (out), 5 OUT- (out), 6 V- (power), 7 VCLAMP, 8 IN+ (in)
part B pins: 9 DAP

## LMH6553MRE/NOPB
designator U?
900 MHz Fully Differential Amplifier with Output Limiting Clamp, 8-pin PSOP, Pb-Free; PartNumber: LMH6553MRE/NOPB; Manufacturer: National Semiconductor; PackageTopMarking: NSXYTT*LMH65*53MR; PowerWise: Y; CompType: Amplifiers; Published: 1-Mar-2010; DatasheetVersion: Nov-2008; PackageVersion: revB, Dec-2007; PackageReference: MRA08B; Publisher: Altium Limited; PackageDescription: Molded, PSOP .193 x .154 x .058in, 8 Lead, .050in Pitch, Large DAP; Supplier 1: Digi-Key; Supplier Part Number 1: LMH6553MRE-ND; Supplier 2: Farnell; Supplier Part Number 2: 1670576; RoHS: Y; PinCount: 8; Code_JEDEC: MS-012-AA; ComponentLink1Description: LMH6553 Datasheet; ComponentLink1URL: http://www.national.com/ds/LM/LMH6553.pdf; ComponentLink2Description: LMH6553 Web Page; ComponentLink2URL: http://www.national.com/pf/LM/LMH6553.html; ComponentLink3Description: MRA08B Package Page; ComponentLink3URL: http://www.national.com/packaging/folders/mra08b.html
footprint MRA08B_N (SOIC, 8-Leads, Body 4.9x3.9mm, Pitch 1.27mm, Exposed Pad, IPC Medium Density)
footprint MRA08B_L (SOIC, 8-Leads, Body 4.9x3.9mm, Pitch 1.27mm, Exposed Pad, IPC High Density)
footprint MRA08B_M (SOIC, 8-Leads, Body 4.9x3.9mm, Pitch 1.27mm, Exposed Pad, IPC Low Density)
simulation model LMH6553 (SUBCKT)
part A pins: 1 IN- (in), 2 VCM, 3 V+ (power), 4 OUT+ (out), 5 OUT- (out), 6 V- (power), 7 VCLAMP, 8 IN+ (in)
part B pins: 9 DAP

## LMH6553MRX/NOPB
designator U?
900 MHz Fully Differential Amplifier with Output Limiting Clamp, 8-pin PSOP, Pb-Free; PartNumber: LMH6553MRX/NOPB; Manufacturer: National Semiconductor; PackageTopMarking: NSXYTT*LMH65*53MR; PowerWise: Y; CompType: Amplifiers; Published: 1-Mar-2010; DatasheetVersion: Nov-2008; PackageVersion: revB, Dec-2007; PackageReference: MRA08B; Publisher: Altium Limited; PackageDescription: Molded, PSOP .193 x .154 x .058in, 8 Lead, .050in Pitch, Large DAP; Supplier 1: Digi-Key; Supplier Part Number 1: LMH6553MRX-ND; RoHS: Y; PinCount: 8; Code_JEDEC: MS-012-AA; ComponentLink1Description: LMH6553 Datasheet; ComponentLink1URL: http://www.national.com/ds/LM/LMH6553.pdf; ComponentLink2Description: LMH6553 Web Page; ComponentLink2URL: http://www.national.com/pf/LM/LMH6553.html; ComponentLink3Description: MRA08B Package Page; ComponentLink3URL: http://www.national.com/packaging/folders/mra08b.html
footprint MRA08B_N (SOIC, 8-Leads, Body 4.9x3.9mm, Pitch 1.27mm, Exposed Pad, IPC Medium Density)
footprint MRA08B_L (SOIC, 8-Leads, Body 4.9x3.9mm, Pitch 1.27mm, Exposed Pad, IPC High Density)
footprint MRA08B_M (SOIC, 8-Leads, Body 4.9x3.9mm, Pitch 1.27mm, Exposed Pad, IPC Low Density)
simulation model LMH6553 (SUBCKT)
part A pins: 1 IN- (in), 2 VCM, 3 V+ (power), 4 OUT+ (out), 5 OUT- (out), 6 V- (power), 7 VCLAMP, 8 IN+ (in)
part B pins: 9 DAP

## LMH6553SD
designator U?
900 MHz Fully Differential Amplifier with Output Limiting Clamp, 8-pin LLP; PartNumber: LMH6553; Manufacturer: National Semiconductor; PackageTopMarking: XYTT*6553; PowerWise: Y; CompType: Amplifiers; Published: 4-Dec-2008; LatestRevisionDate: 13-Jan-2009; LatestRevisionNote: Sim Model Added.; DatasheetVersion: Nov-2008; PackageVersion: revA, Jan-2004; PackageReference: SDA08C; Publisher: Altium Limited; PackageDescription: LLP, Plastic, Dual, 2.5 x 3.0 x 0.8mm Body, 8 Lead, 0.5mm Pitch, No Pullback; Supplier 1: Farnell; Supplier Part Number 1: 1667417; RoHS: Y; PinCount: 8; ComponentLink1Description: LMH6553 Datasheet; ComponentLink1URL: http://www.national.com/ds/LM/LMH6553.pdf; ComponentLink2Description: LMH6553 Web Page; ComponentLink2URL: http://www.national.com/pf/LM/LMH6553.html; ComponentLink3Description: SDA08C Package Page; ComponentLink3URL: http://www.national.com/packaging/folders/sda08c.html
footprint SDA08C (SON, 8-Leads, Body 2.5x3mm, Pitch 0.5mm, NSC Recommended)
simulation model LMH6553 (SUBCKT)
part A pins: 1 IN- (in), 2 VCM, 3 V+ (power), 4 OUT+ (out), 5 OUT- (out), 6 V- (power), 7 VCLAMP, 8 IN+ (in)
part B pins: 9 DAP

## LMH6553SD/NOPB
designator U?
900 MHz Fully Differential Amplifier with Output Limiting Clamp, 8-pin LLP, Pb-Free; PartNumber: LMH6553SD/NOPB; Manufacturer: National Semiconductor; PackageTopMarking: XYTT*6553; PowerWise: Y; CompType: Amplifiers; Published: 1-Mar-2010; DatasheetVersion: Nov-2008; PackageVersion: revA, Jan-2004; PackageReference: SDA08C; Publisher: Altium Limited; PackageDescription: LLP, Plastic, Dual, 2.5 x 3.0 x 0.8mm Body, 8 Lead, 0.5mm Pitch, No Pullback; Supplier 1: Digi-Key; Supplier Part Number 1: LMH6553SD-ND; RoHS: Y; PinCount: 8; ComponentLink1Description: LMH6553 Datasheet; ComponentLink1URL: http://www.national.com/ds/LM/LMH6553.pdf; ComponentLink2Description: LMH6553 Web Page; ComponentLink2URL: http://www.national.com/pf/LM/LMH6553.html; ComponentLink3Description: SDA08C Package Page; ComponentLink3URL: http://www.national.com/packaging/folders/sda08c.html
footprint SDA08C (SON, 8-Leads, Body 2.5x3mm, Pitch 0.5mm, NSC Recommended)
simulation model LMH6553 (SUBCKT)
part A pins: 1 IN- (in), 2 VCM, 3 V+ (power), 4 OUT+ (out), 5 OUT- (out), 6 V- (power), 7 VCLAMP, 8 IN+ (in)
part B pins: 9 DAP

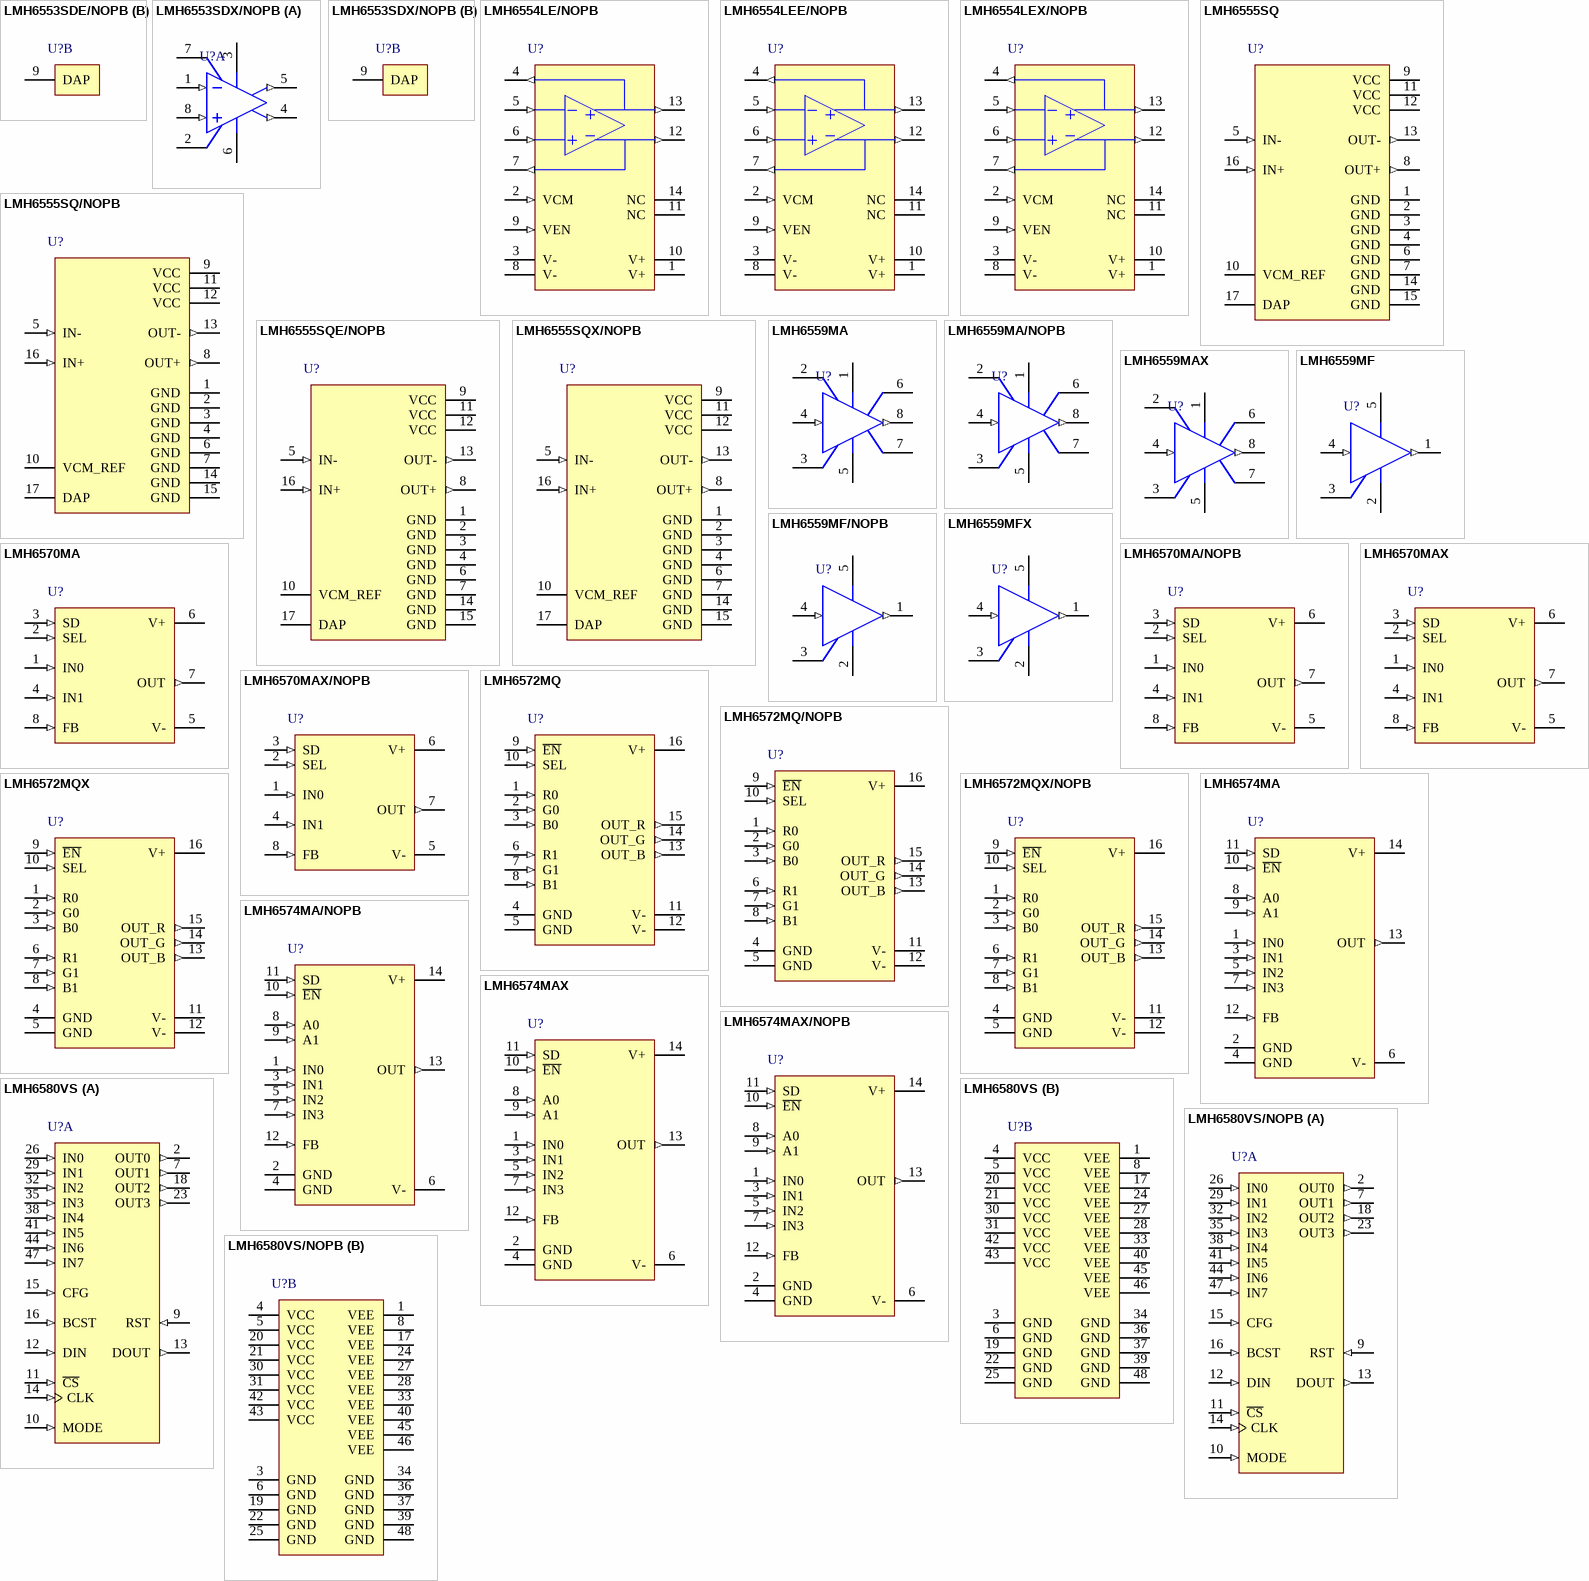
[diagram p42: symbols LMH6553SDE/NOPB to LMH6580VS/NOPB]

## LMH6553SDE/NOPB
designator U?
900 MHz Fully Differential Amplifier with Output Limiting Clamp, 8-pin LLP, Pb-Free; PartNumber: LMH6553SDE/NOPB; Manufacturer: National Semiconductor; PackageTopMarking: XYTT*6553; PowerWise: Y; CompType: Amplifiers; Published: 1-Mar-2010; DatasheetVersion: Nov-2008; PackageVersion: revA, Jan-2004; PackageReference: SDA08C; Publisher: Altium Limited; PackageDescription: LLP, Plastic, Dual, 2.5 x 3.0 x 0.8mm Body, 8 Lead, 0.5mm Pitch, No Pullback; Supplier 1: Digi-Key; Supplier Part Number 1: LMH6553SDETR-ND; Supplier 2: Digi-Key; Supplier Part Number 2: LMH6553SDECT-ND; Supplier 3: Digi-Key; Supplier Part Number 3: LMH6553SDEDKR-ND; Supplier 4: Farnell; Supplier Part Number 4: 1670577; RoHS: Y; PinCount: 8; ComponentLink1Description: LMH6553 Datasheet; ComponentLink1URL: http://www.national.com/ds/LM/LMH6553.pdf; ComponentLink2Description: LMH6553 Web Page; ComponentLink2URL: http://www.national.com/pf/LM/LMH6553.html; ComponentLink3Description: SDA08C Package Page; ComponentLink3URL: http://www.national.com/packaging/folders/sda08c.html
footprint SDA08C (SON, 8-Leads, Body 2.5x3mm, Pitch 0.5mm, NSC Recommended)
simulation model LMH6553 (SUBCKT)
part A pins: 1 IN- (in), 2 VCM, 3 V+ (power), 4 OUT+ (out), 5 OUT- (out), 6 V- (power), 7 VCLAMP, 8 IN+ (in)
part B pins: 9 DAP

## LMH6553SDX/NOPB
designator U?
900 MHz Fully Differential Amplifier with Output Limiting Clamp, 8-pin LLP, Pb-Free; PartNumber: LMH6553SDX/NOPB; Manufacturer: National Semiconductor; PackageTopMarking: XYTT*6553; PowerWise: Y; CompType: Amplifiers; Published: 1-Mar-2010; DatasheetVersion: Nov-2008; PackageVersion: revA, Jan-2004; PackageReference: SDA08C; Publisher: Altium Limited; PackageDescription: LLP, Plastic, Dual, 2.5 x 3.0 x 0.8mm Body, 8 Lead, 0.5mm Pitch, No Pullback; Supplier 1: Digi-Key; Supplier Part Number 1: LMH6553SDX-ND; RoHS: Y; PinCount: 8; ComponentLink1Description: LMH6553 Datasheet; ComponentLink1URL: http://www.national.com/ds/LM/LMH6553.pdf; ComponentLink2Description: LMH6553 Web Page; ComponentLink2URL: http://www.national.com/pf/LM/LMH6553.html; ComponentLink3Description: SDA08C Package Page; ComponentLink3URL: http://www.national.com/packaging/folders/sda08c.html
footprint SDA08C (SON, 8-Leads, Body 2.5x3mm, Pitch 0.5mm, NSC Recommended)
simulation model LMH6553 (SUBCKT)
part A pins: 1 IN- (in), 2 VCM, 3 V+ (power), 4 OUT+ (out), 5 OUT- (out), 6 V- (power), 7 VCLAMP, 8 IN+ (in)
part B pins: 9 DAP

## LMH6554LE/NOPB
designator U?
2.8 GHz Ultra Linear Fully Differential Amplifier, 14-pin LLP, Pb-Free; PartNumber: LMH6554LE/NOPB; Manufacturer: National Semiconductor; PackageTopMarking: XYTT*AJA; PowerWise: Y; CompType: Amplifiers; Published: 1-Mar-2010; DatasheetVersion: Oct-2009; PackageVersion: revB, Apr-2008; PackageReference: LEE14A; Publisher: Altium Limited; PackageDescription: LLP, Plastic, Quad, 2.5 x 2.5 x 0.6mm Body, 14 Lead, 0.4mm Pitch, No Pullback; Supplier 1: Digi-Key; Supplier Part Number 1: LMH6554LE-ND; RoHS: Y; PinCount: 14; ComponentLink1Description: LMH6554 Datasheet; ComponentLink1URL: http://www.national.com/ds/LM/LMH6554.pdf; ComponentLink2Description: LMH6554 Web Page; ComponentLink2URL: http://www.national.com/pf/LM/LMH6554.html; ComponentLink3Description: LEE14A Package Page; ComponentLink3URL: http://www.national.com/packaging/folders/lee14a.html
footprint LEE14A (QFN, 14-Leads, Body 2.5x2.5 mm, Pitch 0.4mm, NSC Recommended)
simulation model lmh6554 (SUBCKT)
pins: 1 V+ (power), 2 VCM (in), 3 V- (power), 4 +FB (out), 5 -IN (in), 6 +IN (in), 7 -FB (out), 8 V- (power), 9 VEN (in), 10 V+ (power), 11 NC, 12 -OUT (out), 13 +OUT (out), 14 NC

## LMH6554LEE/NOPB
designator U?
2.8 GHz Ultra Linear Fully Differential Amplifier, 14-pin LLP, Pb-Free; PartNumber: LMH6554LEE/NOPB; Manufacturer: National Semiconductor; PackageTopMarking: XYTT*AJA; PowerWise: Y; CompType: Amplifiers; Published: 1-Mar-2010; DatasheetVersion: Oct-2009; PackageVersion: revB, Apr-2008; PackageReference: LEE14A; Publisher: Altium Limited; PackageDescription: LLP, Plastic, Quad, 2.5 x 2.5 x 0.6mm Body, 14 Lead, 0.4mm Pitch, No Pullback; Supplier 1: Digi-Key; Supplier Part Number 1: LMH6554LEETR-ND; Supplier 2: Digi-Key; Supplier Part Number 2: LMH6554LEECT-ND; Supplier 3: Digi-Key; Supplier Part Number 3: LMH6554LEEDKR-ND; Supplier 4: Farnell; Supplier Part Number 4: 1793513; RoHS: Y; PinCount: 14; ComponentLink1Description: LMH6554 Datasheet; ComponentLink1URL: http://www.national.com/ds/LM/LMH6554.pdf; ComponentLink2Description: LMH6554 Web Page; ComponentLink2URL: http://www.national.com/pf/LM/LMH6554.html; ComponentLink3Description: LEE14A Package Page; ComponentLink3URL: http://www.national.com/packaging/folders/lee14a.html
footprint LEE14A (QFN, 14-Leads, Body 2.5x2.5 mm, Pitch 0.4mm, NSC Recommended)
simulation model lmh6554 (SUBCKT)
pins: 1 V+ (power), 2 VCM (in), 3 V- (power), 4 +FB (out), 5 -IN (in), 6 +IN (in), 7 -FB (out), 8 V- (power), 9 VEN (in), 10 V+ (power), 11 NC, 12 -OUT (out), 13 +OUT (out), 14 NC

## LMH6554LEX/NOPB
designator U?
2.8 GHz Ultra Linear Fully Differential Amplifier, 14-pin LLP, Pb-Free; PartNumber: LMH6554LEX/NOPB; Manufacturer: National Semiconductor; PackageTopMarking: XYTT*AJA; PowerWise: Y; CompType: Amplifiers; Published: 1-Mar-2010; DatasheetVersion: Oct-2009; PackageVersion: revB, Apr-2008; PackageReference: LEE14A; Publisher: Altium Limited; PackageDescription: LLP, Plastic, Quad, 2.5 x 2.5 x 0.6mm Body, 14 Lead, 0.4mm Pitch, No Pullback; Supplier 1: Digi-Key; Supplier Part Number 1: LMH6554LEX-ND; RoHS: Y; PinCount: 14; ComponentLink1Description: LMH6554 Datasheet; ComponentLink1URL: http://www.national.com/ds/LM/LMH6554.pdf; ComponentLink2Description: LMH6554 Web Page; ComponentLink2URL: http://www.national.com/pf/LM/LMH6554.html; ComponentLink3Description: LEE14A Package Page; ComponentLink3URL: http://www.national.com/packaging/folders/lee14a.html
footprint LEE14A (QFN, 14-Leads, Body 2.5x2.5 mm, Pitch 0.4mm, NSC Recommended)
simulation model lmh6554 (SUBCKT)
pins: 1 V+ (power), 2 VCM (in), 3 V- (power), 4 +FB (out), 5 -IN (in), 6 +IN (in), 7 -FB (out), 8 V- (power), 9 VEN (in), 10 V+ (power), 11 NC, 12 -OUT (out), 13 +OUT (out), 14 NC

## LMH6555SQ
designator U?
Low Distortion 1.2 GHz Differential Driver, 16-pin LLP; PartNumber: LMH6555SQ; Manufacturer: National Semiconductor; PackageTopMarking: NS*UZXYTT*L6555SQ; PowerWise: Y; CompType: Amplifiers; Published: 4-Dec-2008; LatestRevisionDate: 13-Jan-2009; LatestRevisionNote: Sim Model Added.; DatasheetVersion: Dec-2007; PackageVersion: revA, Oct-2003; PackageReference: SQA16A; Publisher: Altium Limited; PackageDescription: LLP, Plastic, Quad, 4 x 4 x 0.8mm Body, 16 Lead, 0.5mm Pitch, No Pullback; Supplier 1: Farnell; Supplier Part Number 1: 1433154; RoHS: Y; PinCount: 16; ComponentLink1Description: LMH6555 Datasheet; ComponentLink1URL: http://www.national.com/ds/LM/LMH6555.pdf; ComponentLink2Description: LMH6555 Web Page; ComponentLink2URL: http://www.national.com/pf/LM/LMH6555.html; ComponentLink3Description: SQA16A Package Page; ComponentLink3URL: http://www.national.com/packaging/folders/sqa16a.html
footprint SQA16A (QFN, 16-Leads, Body 4x4mm, Pitch 0.5mm, NSC Recommended)
simulation model LMH6555 (SUBCKT)
pins: 1 GND (power), 2 GND (power), 3 GND (power), 4 GND (power), 5 IN- (in), 6 GND (power), 7 GND (power), 8 OUT+ (out), 9 VCC (power), 10 VCM_REF, 11 VCC (power), 12 VCC (power), 13 OUT- (out), 14 GND (power), 15 GND (power), 16 IN+ (in), 17 DAP

## LMH6555SQ/NOPB
designator U?
Low Distortion 1.2 GHz Differential Driver, 16-pin LLP, Pb-Free; PartNumber: LMH6555SQ/NOPB; Manufacturer: National Semiconductor; PackageTopMarking: NS*UZXYTT*L6555SQ; PowerWise: Y; CompType: Amplifiers; Published: 1-Mar-2010; DatasheetVersion: Dec-2007; PackageVersion: revA, Oct-2003; PackageReference: SQA16A; Publisher: Altium Limited; PackageDescription: LLP, Plastic, Quad, 4 x 4 x 0.8mm Body, 16 Lead, 0.5mm Pitch, No Pullback; Supplier 1: Digi-Key; Supplier Part Number 1: LMH6555SQTR-ND; Supplier 2: Digi-Key; Supplier Part Number 2: LMH6555SQCT-ND; Supplier 3: Digi-Key; Supplier Part Number 3: LMH6555SQDKR-ND; RoHS: Y; PinCount: 16; ComponentLink1Description: LMH6555 Datasheet; ComponentLink1URL: http://www.national.com/ds/LM/LMH6555.pdf; ComponentLink2Description: LMH6555 Web Page; ComponentLink2URL: http://www.national.com/pf/LM/LMH6555.html; ComponentLink3Description: SQA16A Package Page; ComponentLink3URL: http://www.national.com/packaging/folders/sqa16a.html
footprint SQA16A (QFN, 16-Leads, Body 4x4mm, Pitch 0.5mm, NSC Recommended)
simulation model LMH6555 (SUBCKT)
pins: 1 GND (power), 2 GND (power), 3 GND (power), 4 GND (power), 5 IN- (in), 6 GND (power), 7 GND (power), 8 OUT+ (out), 9 VCC (power), 10 VCM_REF, 11 VCC (power), 12 VCC (power), 13 OUT- (out), 14 GND (power), 15 GND (power), 16 IN+ (in), 17 DAP

## LMH6555SQE/NOPB
designator U?
Low Distortion 1.2 GHz Differential Driver, 16-pin LLP, Pb-Free; PartNumber: LMH6555SQE/NOPB; Manufacturer: National Semiconductor; PackageTopMarking: NS*UZXYTT*L6555SQ; PowerWise: N; CompType: Amplifiers; Published: 1-Mar-2010; DatasheetVersion: Dec-2007; PackageVersion: revA, Oct-2003; PackageReference: SQA16A; Publisher: Altium Limited; PackageDescription: LLP, Plastic, Quad, 4 x 4 x 0.8mm Body, 16 Lead, 0.5mm Pitch, No Pullback; Supplier 1: Digi-Key; Supplier Part Number 1: LMH6555SQE-ND; RoHS: Y; PinCount: 16; ComponentLink1Description: LMH6555 Datasheet; ComponentLink1URL: http://www.national.com/ds/LM/LMH6555.pdf; ComponentLink2Description: LMH6555 Web Page; ComponentLink2URL: http://www.national.com/pf/LM/LMH6555.html; ComponentLink3Description: SQA16A Package Page; ComponentLink3URL: http://www.national.com/packaging/folders/sqa16a.html
footprint SQA16A (QFN, 16-Leads, Body 4x4mm, Pitch 0.5mm, NSC Recommended)
simulation model LMH6555 (SUBCKT)
pins: 1 GND (power), 2 GND (power), 3 GND (power), 4 GND (power), 5 IN- (in), 6 GND (power), 7 GND (power), 8 OUT+ (out), 9 VCC (power), 10 VCM_REF, 11 VCC (power), 12 VCC (power), 13 OUT- (out), 14 GND (power), 15 GND (power), 16 IN+ (in), 17 DAP

## LMH6555SQX/NOPB
designator U?
Low Distortion 1.2 GHz Differential Driver, 16-pin LLP, Pb-Free; PartNumber: LMH6555SQX/NOPB; Manufacturer: National Semiconductor; PackageTopMarking: NS*UZXYTT*L6555SQ; PowerWise: Y; CompType: Amplifiers; Published: 1-Mar-2010; DatasheetVersion: Dec-2007; PackageVersion: revA, Oct-2003; PackageReference: SQA16A; Publisher: Altium Limited; PackageDescription: LLP, Plastic, Quad, 4 x 4 x 0.8mm Body, 16 Lead, 0.5mm Pitch, No Pullback; Supplier 1: Digi-Key; Supplier Part Number 1: LMH6555SQX-ND; RoHS: Y; PinCount: 16; ComponentLink1Description: LMH6555 Datasheet; ComponentLink1URL: http://www.national.com/ds/LM/LMH6555.pdf; ComponentLink2Description: LMH6555 Web Page; ComponentLink2URL: http://www.national.com/pf/LM/LMH6555.html; ComponentLink3Description: SQA16A Package Page; ComponentLink3URL: http://www.national.com/packaging/folders/sqa16a.html
footprint SQA16A (QFN, 16-Leads, Body 4x4mm, Pitch 0.5mm, NSC Recommended)
simulation model LMH6555 (SUBCKT)
pins: 1 GND (power), 2 GND (power), 3 GND (power), 4 GND (power), 5 IN- (in), 6 GND (power), 7 GND (power), 8 OUT+ (out), 9 VCC (power), 10 VCM_REF, 11 VCC (power), 12 VCC (power), 13 OUT- (out), 14 GND (power), 15 GND (power), 16 IN+ (in), 17 DAP

## LMH6559MA
designator U?
High-Speed, Closed-Loop Buffer, 8-pin Narrow SOIC; PartNumber: LMH6559MA; Manufacturer: National Semiconductor; PackageTopMarking: NSZXTT*LMH65*59MA; PowerWise: N; CompType: Amplifiers; Published: 4-Dec-2008; LatestRevisionDate: 13-Jan-2009; LatestRevisionNote: Sim Model Added.; DatasheetVersion: Jul-2006; PackageVersion: revM, May-2009; PackageReference: M08A; Publisher: Altium Limited; PackageDescription: SOIC Narrow, 4.9 x 3.9 x 1.45mm, 8 Lead, 1.27mm Pitch; Supplier 1: Farnell; Supplier Part Number 1: 8180997; RoHS: N; PinCount: 8; Code_JEDEC: MS-012-AA; Code_IPC: SOIC127P600-8; ComponentLink1Description: LMH6559 Datasheet; ComponentLink1URL: http://www.national.com/ds/LM/LMH6559.pdf; ComponentLink2Description: LMH6559 Web Page; ComponentLink2URL: http://www.national.com/pf/LM/LMH6559.html; ComponentLink3Description: M08A Package Page; ComponentLink3URL: http://www.national.com/packaging/folders/m08a.html
footprint M08A_N (SOIC, 8-Leads, Body 4.9x3.9mm, Pitch 1.27mm, IPC Medium Density)
footprint M08A_L (SOIC, 8-Leads, Body 4.9x3.9mm, Pitch 1.27mm, IPC High Density)
footprint M08A_M (SOIC, 8-Leads, Body 4.9x3.9mm, Pitch 1.27mm, IPC Low Density)
simulation model LMH6559 (SUBCKT)
pins: 1 VCC (power), 2 NC, 3 NC, 4 IN (in), 5 VEE (power), 6 NC, 7 NC, 8 OUT (out)

## LMH6559MA/NOPB
designator U?
High-Speed, Closed-Loop Buffer, 8-pin Narrow SOIC, Pb-Free; PartNumber: LMH6559MA/NOPB; Manufacturer: National Semiconductor; PackageTopMarking: NSZXTT*LMH65*59MA; PowerWise: N; CompType: Amplifiers; Published: 1-Mar-2010; DatasheetVersion: Jul-2006; PackageVersion: revM, May-2009; PackageReference: M08A; Publisher: Altium Limited; PackageDescription: SOIC Narrow, 4.9 x 3.9 x 1.45mm, 8 Lead, 1.27mm Pitch; Supplier 1: Digi-Key; Supplier Part Number 1: LMH6559MA-ND; Supplier 2: Farnell; Supplier Part Number 2: 1693952; RoHS: Y; PinCount: 8; Code_JEDEC: MS-012-AA; Code_IPC: SOIC127P600-8; ComponentLink1Description: LMH6559 Datasheet; ComponentLink1URL: http://www.national.com/ds/LM/LMH6559.pdf; ComponentLink2Description: LMH6559 Web Page; ComponentLink2URL: http://www.national.com/pf/LM/LMH6559.html; ComponentLink3Description: M08A Package Page; ComponentLink3URL: http://www.national.com/packaging/folders/m08a.html
footprint M08A_N (SOIC, 8-Leads, Body 4.9x3.9mm, Pitch 1.27mm, IPC Medium Density)
footprint M08A_L (SOIC, 8-Leads, Body 4.9x3.9mm, Pitch 1.27mm, IPC High Density)
footprint M08A_M (SOIC, 8-Leads, Body 4.9x3.9mm, Pitch 1.27mm, IPC Low Density)
simulation model LMH6559 (SUBCKT)
pins: 1 VCC (power), 2 NC, 3 NC, 4 IN (in), 5 VEE (power), 6 NC, 7 NC, 8 OUT (out)

## LMH6559MAX
designator U?
High-Speed, Closed-Loop Buffer, 8-pin Narrow SOIC; PartNumber: LMH6559MAX; Manufacturer: National Semiconductor; PackageTopMarking: NSZXTT*LMH65*59MA; PowerWise: N; CompType: Amplifiers; Published: 1-Mar-2010; DatasheetVersion: Jul-2006; PackageVersion: revM, May-2009; PackageReference: M08A; Publisher: Altium Limited; PackageDescription: SOIC Narrow, 4.9 x 3.9 x 1.45mm, 8 Lead, 1.27mm Pitch; RoHS: N; PinCount: 8; Code_JEDEC: MS-012-AA; Code_IPC: SOIC127P600-8; ComponentLink1Description: LMH6559 Datasheet; ComponentLink1URL: http://www.national.com/ds/LM/LMH6559.pdf; ComponentLink2Description: LMH6559 Web Page; ComponentLink2URL: http://www.national.com/pf/LM/LMH6559.html; ComponentLink3Description: M08A Package Page; ComponentLink3URL: http://www.national.com/packaging/folders/m08a.html
footprint M08A_N (SOIC, 8-Leads, Body 4.9x3.9mm, Pitch 1.27mm, IPC Medium Density)
footprint M08A_L (SOIC, 8-Leads, Body 4.9x3.9mm, Pitch 1.27mm, IPC High Density)
footprint M08A_M (SOIC, 8-Leads, Body 4.9x3.9mm, Pitch 1.27mm, IPC Low Density)
simulation model LMH6559 (SUBCKT)
pins: 1 VCC (power), 2 NC, 3 NC, 4 IN (in), 5 VEE (power), 6 NC, 7 NC, 8 OUT (out)